# EAGLE library part 4455-C25_S (library con-molex-kk)
RECEPTACAL
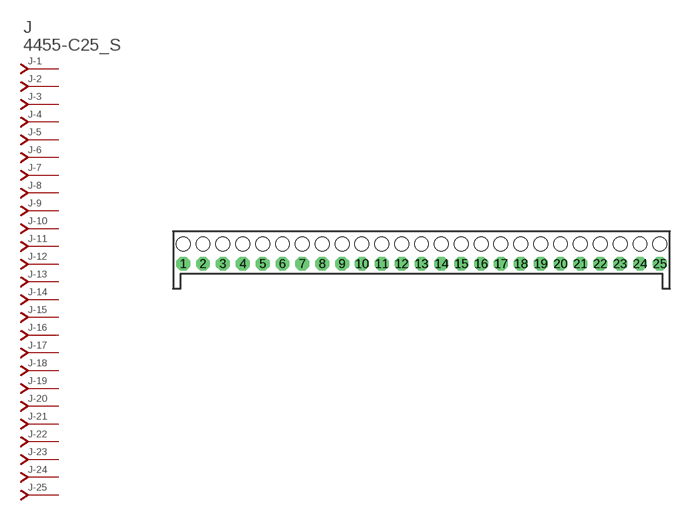
[diagram p5: symbol with the pads of 4455-C25; footprint 4455-C25]

Designator prefix J; gates -1=J-NV -2=J-N -3=J-N -4=J-N -5=J-N -6=J-N -7=J-N -8=J-N -9=J-N -10=J-N -11=J-N -12=J-N -13=J-N -14=J-N -15=J-N -16=J-N -17=J-N -18=J-N -19=J-N -20=J-N -21=J-N -22=J-N -23=J-N -24=J-N -25=J-N

## 4455-C25_S  [4455-C25]
1  -1:J  pas
2  -2:J  pas
3  -3:J  pas
4  -4:J  pas
5  -5:J  pas
6  -6:J  pas
7  -7:J  pas
8  -8:J  pas
9  -9:J  pas
10  -10:J  pas
11  -11:J  pas
12  -12:J  pas
13  -13:J  pas
14  -14:J  pas
15  -15:J  pas
16  -16:J  pas
17  -17:J  pas
18  -18:J  pas
19  -19:J  pas
20  -20:J  pas
21  -21:J  pas
22  -22:J  pas
23  -23:J  pas
24  -24:J  pas
25  -25:J  pas

## Footprint 4455-C25 (pad centres in mm)
RECEPTACAL Vertical, Top Entry, 0.1" pitch
drill 1.016 pad 1.778 octagon: 1 -30.48,0; 2 -27.94,0; 3 -25.4,0; 4 -22.86,0; 5 -20.32,0; 6 -17.78,0; 7 -15.24,0; 8 -12.7,0; 9 -10.16,0; 10 -7.62,0; 11 -5.08,0; 12 -2.54,0; 13 0,0; 14 2.54,0; 15 5.08,0; 16 7.62,0; 17 10.16,0; 18 12.7,0; 19 15.24,0; 20 17.78,0; 21 20.32,0; 22 22.86,0; 23 25.4,0; 24 27.94,0; 25 30.48,0
hole 1.778 at -30.48,2.54
hole 1.778 at -27.94,2.54
hole 1.778 at -25.4,2.54
hole 1.778 at -22.86,2.54
hole 1.778 at -20.32,2.54
hole 1.778 at -17.78,2.54
hole 1.778 at -15.24,2.54
hole 1.778 at -12.7,2.54
hole 1.778 at -10.16,2.54
hole 1.778 at -7.62,2.54
hole 1.778 at -5.08,2.54
hole 1.778 at -2.54,2.54
hole 1.778 at 0,2.54
hole 1.778 at 2.54,2.54
hole 1.778 at 5.08,2.54
hole 1.778 at 7.62,2.54
hole 1.778 at 10.16,2.54
hole 1.778 at 12.7,2.54
hole 1.778 at 15.24,2.54
hole 1.778 at 17.78,2.54
hole 1.778 at 20.32,2.54
hole 1.778 at 22.86,2.54
hole 1.778 at 25.4,2.54
hole 1.778 at 27.94,2.54
hole 1.778 at 30.48,2.54